# EAGLE library part CAT5171TBI-50GT3 (library theremin)
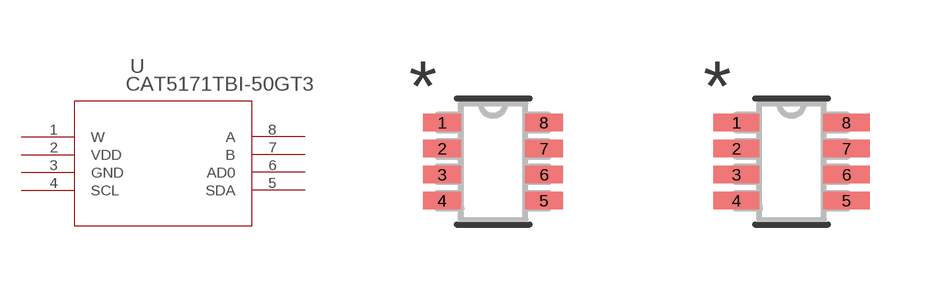
[diagram p3: symbol with the pads of SOT23-8_ONS; footprints SOT23-8_ONS, SOT23-8_ONS-M]

Designator prefix U

## CAT5171TBI-50GT3 (COPYRIGHT: Copyright (C) 2025 Ultra Librarian. All rights reserved.; MANUFACTURER_PART_NUMBER: CAT5171TBI-50GT3; MFR_NAME: onsemi)  [SOT23-8_ONS]
1  W  pas
2  VDD  pwr
3  GND  pwr
4  SCL  in
5  SDA  in
6  AD0  in
7  B  pas
8  A  pas

## CAT5171TBI-50GT3SOT23-8_ONS-M (COPYRIGHT: Copyright (C) 2025 Ultra Librarian. All rights reserved.; MANUFACTURER_PART_NUMBER: CAT5171TBI-50GT3; MFR_NAME: onsemi)  [SOT23-8_ONS-M]
Pads as for SOT23-8_ONS

## CAT5171TBI-50GT3SOT23-8_ONS-L (COPYRIGHT: Copyright (C) 2025 Ultra Librarian. All rights reserved.; MANUFACTURER_PART_NUMBER: CAT5171TBI-50GT3; MFR_NAME: onsemi)  [SOT23-8_ONS-L]
Pads as for SOT23-8_ONS

## Footprint SOT23-8_ONS (pad centres in mm)
smd 0.953 x 0.432: 1 -1.276,0.975; 2 -1.276,0.325; 3 -1.276,-0.325; 4 -1.276,-0.975; 5 1.276,-0.975; 6 1.276,-0.325; 7 1.276,0.325; 8 1.276,0.975

## Footprint SOT23-8_ONS-M (pad centres in mm)
smd 1.156 x 0.432: 1 -1.378,0.975; 2 -1.378,0.325; 3 -1.378,-0.325; 4 -1.378,-0.975; 5 1.378,-0.975; 6 1.378,-0.325; 7 1.378,0.325; 8 1.378,0.975

## Footprint SOT23-8_ONS-L (pad centres in mm)
smd 0.749 x 0.381: 1 -1.175,0.975; 2 -1.175,0.325; 3 -1.175,-0.325; 4 -1.175,-0.975; 5 1.175,-0.975; 6 1.175,-0.325; 7 1.175,0.325; 8 1.175,0.975